# Altium schematic symbol library LM2576SX-5.0_NOPB.Schlib: 1 symbol
Pins are listed as number, name and electrical type; pins without a type are passive.

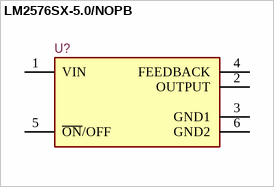
[diagram p0: symbol LM2576SX-5.0/NOPB]

## LM2576SX-5.0/NOPB
designator U?
Step-Down Positive Adjustable (Fixed) 1 3A 52kHz TO-263-5 DC-DC Converters RoHS; LCSC Part #: C34465; JLCPCB Part Type: Basic; ComponentLink1Description: LCSC - Texas Instruments LM2576SX-5.0/NOPB; ComponentLink1URL: https://lcsc.com/product-detail/DC-DC-Converters_TI_LM2576SX-5-0_LM2576SX-5-0_C34465.html/?href=jlc-SMT
footprint TO-263-5
pins: 1 VIN, 2 OUTPUT, 3 GND1, 4 FEEDBACK, 5 ~{ON}/OFF, 6 GND2